# Altium schematic symbol library B4B-XH-A.SchLib: 1 symbol
Pins are listed as number, name and electrical type; pins without a type are passive.

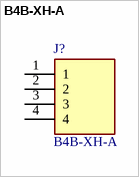
[diagram p0: symbol B4B-XH-A]

## B4B-XH-A
designator J?
Wire-board; socket; male; XH; 2.5mm; PIN: 4; THT; 250V; 3A; -2585C; Manufacturer_Name: JST (JAPAN SOLDERLESS TERMINALS); Geometry.Height: 7mm; Manufacturer_Part_Number: B4B-XH-A; Mouser Part Number: *; Mouser Price/Stock: *; Arrow Part Number: *; Arrow Price/Stock: *; Datasheet Link: https://www.jst-mfg.com/product/pdf/eng/eXH.pdf
footprint B4BXHA
pins: 1, 2, 3, 4